# Altium schematic symbol library Battery.SchLib: 3 symbols
Pins are listed as number, name and electrical type; pins without a type are passive.

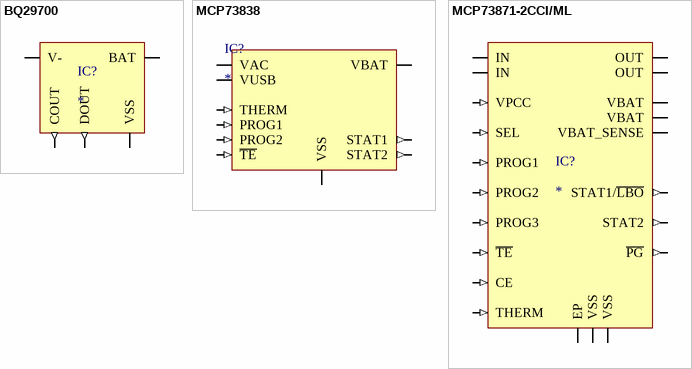
[diagram p0: symbols BQ29700 to MCP73871-2CCI/ML]

## BQ29700
designator IC?
Li-Po battery voltage and current protection
footprint WSON-6_M (WSON, 6-Leads, Body 1.55x1.55mm, Pitch 0.5mm, IPC Low Density)
pins: 2 COUT (out), 3 DOUT (out), 4 VSS (power), 5 BAT (power), 6 V- (io)

## MCP73838
designator IC?
Li-Po battery charge controller
footprint MSOP-10_M (MSOP, 10-Leads, Body 3x3x1.1mm, Pitch 0.5mm, Lead Span 4.9mm, IPC Low Density)
pins: 1 VAC (power), 2 VUSB (power), 3 STAT1 (out), 4 STAT2 (out), 5 VSS (power), 6 PROG1 (in), 7 PROG2 (in), 8 ~{TE} (in), 9 THERM (in), 10 VBAT (power)

## MCP73871-2CCI/ML
designator IC?
Li-Po battery charge controller with system load sharing
footprint QFN-20_M (QFN, 20-Leads, Body 4x4mm, Pitch 0.5mm, IPC Low Density)
pins: 1 OUT (power), 2 VPCC (in), 3 SEL (in), 4 PROG2 (in), 5 THERM (in), 6 ~{PG} (out), 7 STAT2 (out), 8 STAT1/~{LBO} (out), 9 ~{TE} (in), 10 VSS (power), 11 VSS (power), 12 PROG3 (in), 13 PROG1 (in), 14 VBAT (power), 15 VBAT (power), 16 VBAT_SENSE (power), 17 CE (in), 18 IN (power), 19 IN (power), 20 OUT (power), EP (power)